# Altium schematic symbol library 5.Transistors.SchLib: 47 symbols
Pins are listed as number, name and electrical type; pins without a type are passive.

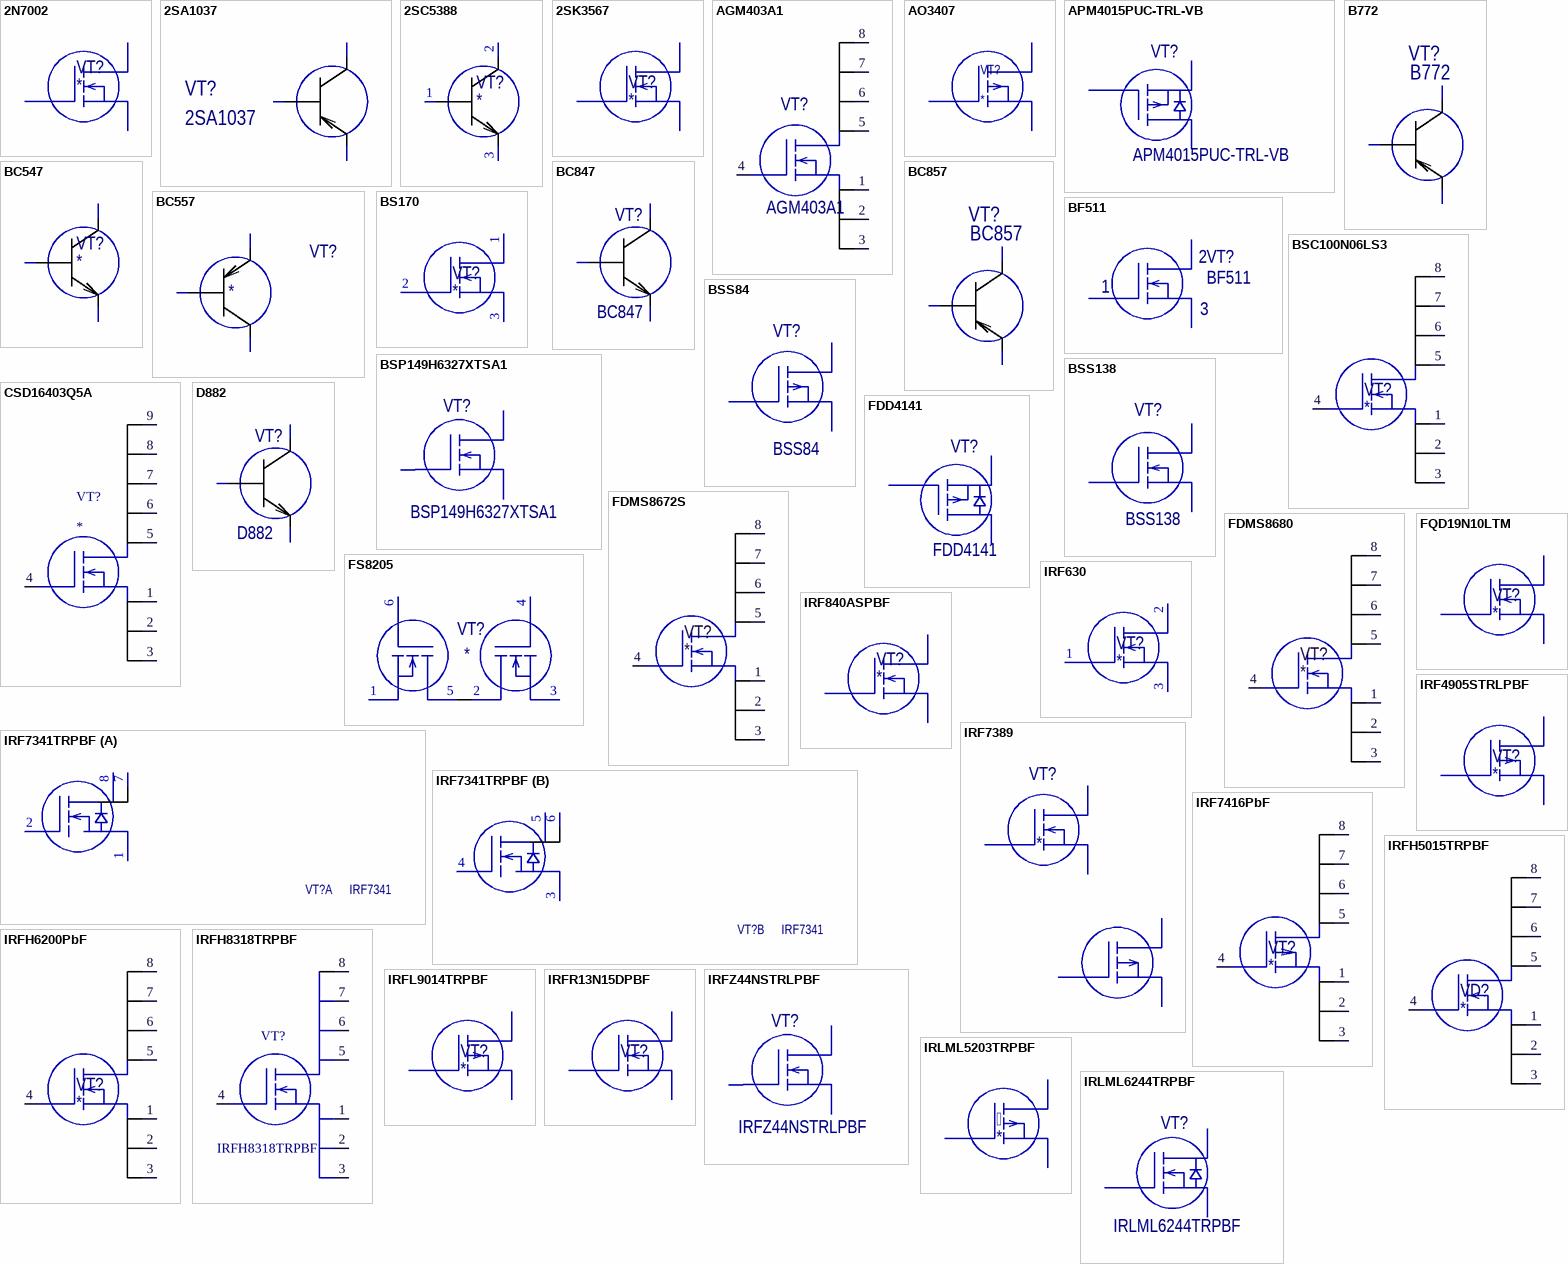
[diagram p0: symbols 2N7002 to IRLML6244TRPBF]

## 2N7002
designator VT?
N-ch MFE transistor
footprint SOT23 (SOT23, 3-Leads, Body 2,90x2,45mm, Pitch 0,95mm, IPC Medium Density)
pins: 1 G, 2 S, 3 D

## 2SA1037
designator VT?
footprint SOT23 (SOT23, 3-Leads, Body 2,90x2,45mm, Pitch 0,95mm, IPC Medium Density)
pins: 1 B, 2 E, 3 C

## 2SC5388
designator VT?
Транзистор NPN 700В 5А 50Вт
footprint TO-3P
pins: 1 B, 2 C, 3 E

## 2SK3567
designator VT?
Транзистор, N-канал [TO-220F]
footprint TO-220F
pins: 1 G, 2 D, 3 S

## AGM403A1
designator VT?
N-CH MOSFETs40V 120A 105W 2.7m-@10V,20A 2.1V@250uA N Channel 20nC@10V -55-~+150-@(Tj) DFN(5x6)
footprint 5x6 PQFN (IRFH8318)
pins: 1 S, 2 S, 3 G, 4 G, 5 D, 6 D, 7 D, 8 D

## AO3407
designator VT?
footprint SOT23 (SOT23, 3-Leads, Body 2,90x2,45mm, Pitch 0,95mm, IPC Medium Density)
pins: 1 G, 2 S, 3 D

## APM4015PUC-TRL-VB
designator VT?
Транзистор P-MOSFET 40В 50А [TO-252]; Manufacturer_Name: onsemi; Manufacturer_Part_Number: FDD4141; Datasheet Link: https://www.onsemi.com/pub/Collateral/FDD4141-D.pdf; Height: 2.39mm; Mouser Part Number: 512-FDD4141; Mouser Price/Stock: https://www.mouser.co.uk/ProductDetail/onsemi-Fairchild/FDD4141?qs=uX8DSVXMAZECDZwLcfL3Uw%3D%3D; Arrow Part Number: FDD4141; Arrow Price/Stock: https://www.arrow.com/en/products/fdd4141/on-semiconductor?region=nac
footprint DPAK
footprint TO-252 (D-PAK, 3-Pads, Body 6,15x6,65mm (max), IPC Medium Density)
pins: D 2, G 1, S 3

## B772
designator VT?
footprint SOT89 (SOT89, 3-Leads, Body 4.50x2.45mm, Pitch 1.50mm, Lead Span 4.1mm, IPC Medium Density)
pins: 1 B, 2 C, 3 E

## BC547
designator VT?
footprint КТ-26 (Аналог TO-92 // Масса не более 1г //  LIV)
pins: 1 C, 2 B, 3 E

## BC557
designator VT?
footprint КТ-26 (Аналог TO-92 // Масса не более 1г //  LIV)
pins: 1 C, 2 B, 3 E

## BC847
designator VT?
footprint SOT23 (SOT23, 3-Leads, Body 2,90x2,45mm, Pitch 0,95mm, IPC Medium Density)
pins: 1 B, 2 E, 3 C

## BC857
designator VT?
footprint SOT23 (SOT23, 3-Leads, Body 2,90x2,45mm, Pitch 0,95mm, IPC Medium Density)
pins: 1 B, 2 E, 3 C

## BF511
designator VT?
footprint SOT23 (SOT23, 3-Leads, Body 2,90x2,45mm, Pitch 0,95mm, IPC Medium Density)
pins: 1 G, 2 D, 3 S

## BS170
designator VT?
N-Channel Enhancement Mode Field Effect Transistor
footprint КТ-26 (Аналог TO-92 // Масса не более 1г //  LIV)
pins: 1 D, 2 G, 3 S

## BSC100N06LS3
designator VT?
MOSFET, N-CH, 60V, 50A, 8TDSON
footprint 8-PowerTDFN
pins: 1 S, 2 S, 3 G, 4 G, 5 D, 6 D, 7 D, 8 D

## BSP149H6327XTSA1
designator VT?
Транзистор N-MOSFET 200В 660мА [SOT-223]
footprint sot223 (SOT223, 4-Leads, Body 6,50x7,00mm (avg), Pitch 2,30mm, IPC Medium Density)
pins: 1 G, 2 D, 3 S

## BSS84
designator VT?
Транзистор, P-канал, 50В 130мА
footprint SOT23 (SOT23, 3-Leads, Body 2,90x2,45mm, Pitch 0,95mm, IPC Medium Density)
pins: 1 G, 2 S, 3 D

## BSS138
designator VT?
MOSFET, N-канал, 0.2А, 50В
footprint SOT23 (SOT23, 3-Leads, Body 2,90x2,45mm, Pitch 0,95mm, IPC Medium Density)
pins: 1 G, 2 S, 3 D

## CSD16403Q5A
designator VT?
MOSFET (N-Channel); Manufacturer_Name: Texas Instruments; Manufacturer_Part_Number: CSD16403Q5A; Datasheet Link: https://datasheet.lcsc.com/szlcsc/Texas-Instruments-TI-CSD16403Q5A_C14456.pdf; Height: 1.1mm; Mouser Part Number: 595-CSD16403Q5A; Mouser Price/Stock: https://www.mouser.co.uk/ProductDetail/Texas-Instruments/CSD16403Q5A?qs=SuDOdTVxq4UCn31HI%252Bl2BA%3D%3D; Arrow Part Number: CSD16403Q5A; Arrow Price/Stock: https://www.arrow.com/en/products/csd16403q5a/texas-instruments
footprint 8SON (Footprint not found)
pins: 1 S, 2 S, 3 G, 4 G, 5 D, 6 D, 7 D, 8 D, 9 D

## D882
designator VT?
footprint SOT89 (SOT89, 3-Leads, Body 4.50x2.45mm, Pitch 1.50mm, Lead Span 4.1mm, IPC Medium Density)
pins: 1 B, 2 C, 3 E

## FDD4141
designator VT?
MOSFET (P-Channel) 40В 10.8А 69Вт [DPAK]; Manufacturer_Name: onsemi; Datasheet Link: https://www.onsemi.com/pub/Collateral/FDD4141-D.pdf; Height: 2.39mm; Manufacturer_Part_Number: FDD4141; Mouser Part Number: 512-FDD4141; Mouser Price/Stock: https://www.mouser.co.uk/ProductDetail/onsemi-Fairchild/FDD4141?qs=uX8DSVXMAZECDZwLcfL3Uw%3D%3D; Arrow Part Number: FDD4141; Arrow Price/Stock: https://www.arrow.com/en/products/fdd4141/on-semiconductor?region=nac
footprint DPAK
pins: D 2, G 1, S 3

## FDMS8672S
designator VT?
footprint 8-PowerTDFN
pins: 1 S, 2 S, 3 G, 4 G, 5 D, 6 D, 7 D, 8 D

## FDMS8680
designator VT?
footprint 8-PowerTDFN
pins: 1 S, 2 S, 3 G, 4 G, 5 D, 6 D, 7 D, 8 D

## FQD19N10LTM
designator VT?
MOSFET, N CH, 100V, 15.6A, TO-252AA-3
footprint TO-252 (D-PAK, 3-Pads, Body 6,15x6,65mm (max), IPC Medium Density)
footprint D2PAK
pins: 1 G, 2 D, 3 S

## FS8205
designator VT?
Транзисторная сборка
footprint SOT-23-6 (SOT23, 6-Leads, Body 1,60x1,60mm, Pitch 0,50mm, IPC Medium Density)
pins: 1 S1, 2 D, 3 S, 4 G, 5 D, 6 G

## IRF630
designator VT?
Транзистор, N-канал 200В 9А [TO-220AB]
footprint TO-220F
pins: 1 G, 2 D, 3 S

## IRF840ASPBF
designator VT?
footprint D2PAK
pins: 1 S, 2 D, 3 G

## IRF4905STRLPBF
designator VT?
Транзистор HEXFET, P-канал, 55В, 74А [D2-PAK]
footprint d2pak
pins: 1 G, 2 S, 3 D

## IRF7341TRPBF
designator VT?, comment IRF7341
Сборка транзисторная N-MOSFET; Manufacturer_Name: Infineon; Manufacturer_Part_Number: IRF7341TRPBF; Datasheet Link: https://www.infineon.com/dgdl/irf7341pbf.pdf?fileId=5546d462533600a4015355f64f031b63; Height: 1.75mm; Mouser Part Number: 942-IRF7341TRPBF; Mouser Price/Stock: https://www.mouser.co.uk/ProductDetail/Infineon-IR/IRF7341TRPBF?qs=9%252BKlkBgLFf2bTCnvSq3Q3A%3D%3D; Arrow Part Number: IRF7341TRPBF; Arrow Price/Stock: https://www.arrow.com/en/products/irf7341trpbf/infineon-technologies-ag
footprint so-8 (SOIC, 8-Leads, Body 4,90x3,90mm, Pitch 1,27mm, IPC Medium Density)
part A pins: 1 S, 2 G1, 7 D2, 8 D1
part B pins: 3 S, 4 G1, 5 D1, 6 D2

## IRF7389
designator VT?
pins: 1 G, 1 G, 2 S, 2 S, 3 D, 3 D

## IRF7416PbF
designator VT?
MOSFET, P-CH, 30V, 10A, SOIC-8
footprint so-8 (SOIC, 8-Leads, Body 4,90x3,90mm, Pitch 1,27mm, IPC Medium Density)
pins: 1 S, 2 S, 3 G, 4 G, 5 D, 6 D, 7 D, 8 D

## IRFH5015TRPBF
designator VD?
MOSFET, N-CH, 150V, 10A, PQFN-8
footprint 8-PowerTDFN
pins: 1 S, 2 S, 3 G, 4 G, 5 D, 6 D, 7 D, 8 D

## IRFH6200PbF
designator VT?
footprint 8-PowerTDFN
pins: 1 S, 2 S, 3 G, 4 G, 5 D, 6 D, 7 D, 8 D

## IRFH8318TRPBF
designator VT?
footprint 5x6 PQFN (IRFH8318)
pins: 1 S, 2 S, 3 G, 4 G, 5 D, 6 D, 7 D, 8 D

## IRFL9014TRPBF
designator VT?
Транзистор, P-канал 60В 1.8А [SOT-223]
footprint SOT223 (SOT223, 4-Leads, Body 6,50x7,00mm (avg), Pitch 2,30mm, IPC Medium Density)
pins: 1 G, 2 D, 3 S

## IRFR13N15DPBF
designator VT?
ComponentLink1Description: IRFR13N15DPBF; ComponentLink1URL: https://pdf1.alldatasheet.com/datasheet-pdf/view/546169/KERSEMI/IRFR13N15D.html
footprint TO-252 (D-PAK, 3-Pads, Body 6,15x6,65mm (max), IPC Medium Density)
pins: 1 G, 2 D, 3 S

## IRFZ44NSTRLPBF
designator VT?
Транзистор, N-канал 55В 49А
footprint D2PAK
pins: 1 G, 2 D, 3 S

## IRLML5203TRPBF
designator 
Транзистор, P-канал 30В 3A logic
footprint SOT23 (SOT23, 3-Leads, Body 2,90x2,45mm, Pitch 0,95mm, IPC Medium Density)
pins: 1 G, 2 S, 3 D

## IRLML6244TRPBF
designator VT?
Транзистор, N-канал 20В 6.3А
footprint SOT23 (SOT23, 3-Leads, Body 2,90x2,45mm, Pitch 0,95mm, IPC Medium Density)
pins: 1 G, 2 S, 3 D

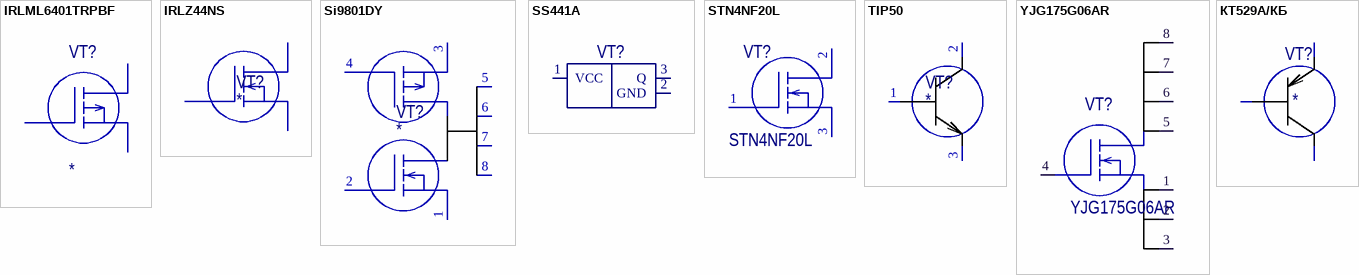
[diagram p1: symbols IRLML6401TRPBF to КТ529А/КБ]

## IRLML6401TRPBF
designator VT?
HelpURL: https://static.chipdip.ru/lib/144/DOC000144674.pdf
footprint SOT23 (SOT23, 3-Leads, Body 2,90x2,45mm, Pitch 0,95mm, IPC Medium Density)
pins: 1 G, 2 S, 3 D

## IRLZ44NS
designator VT?
Транзистор, N-канал 55В 49А
footprint D2PAK
pins: 1 G, 2 D, 3 S

## Si9801DY
designator VT?
N-/P-Channel, Reduced Qg, Fast Switching Half-Bridge
footprint SO-8 (SOIC, 8-Leads, Body 4,90x3,90mm, Pitch 1,27mm, IPC Medium Density)
pins: 1 S1, 2 G, 3 S, 4 G, 5 D, 6 D, 7 D, 8 D

## SS441A
designator VT?  (value not drawn)
footprint TO-92
pins: 1 VCC, 2 GND, 3 Q

## STN4NF20L
designator VT?
Транзистор, MOSFET N - канал, 200В 1А
footprint SOT223 (SOT223, 4-Leads, Body 6,50x7,00mm (avg), Pitch 2,30mm, IPC Medium Density)
pins: 1, 2, 3

## TIP50
designator VT?
Транзистор, N-канал [TO-220F]
footprint TO-220F
pins: 1 B, 2 C, 3 E

## YJG175G06AR
designator VT?
N-channel reinforced MOSFET transistor, 60V, 175A, 140W
footprint 5x6 PQFN (IRFH8318)
pins: 1 S, 2 S, 3 G, 4 G, 5 D, 6 D, 7 D, 8 D

## КТ529А/КБ
designator VT?
footprint КТ-26 (Аналог TO-92 // Масса не более 1г //  LIV)
pins: 1 C, 2 B, 3 E